# EAGLE library part LTP-3786 (library kmod-testing)
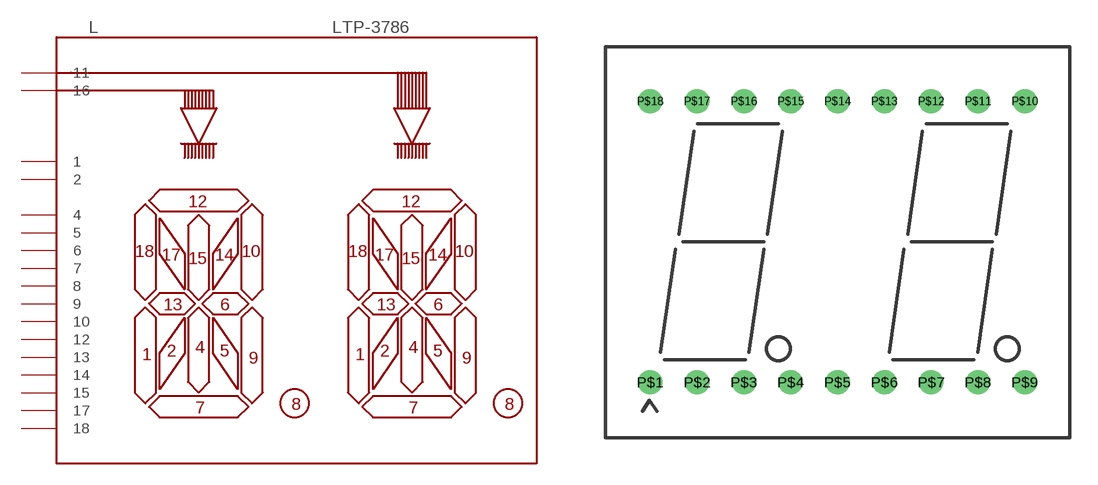
[diagram p21: symbol with the pads of LTP-378?; footprint LTP-378?]

Designator prefix L

## LTP-3786  [LTP-378?]
P$1  1
P$2  2
P$4  4
P$5  5
P$6  6
P$7  7
P$8  8
P$9  9
P$10  10
P$11  11
P$12  12
P$13  13
P$14  14
P$15  15
P$16  16
P$17  17
P$18  18

## Footprint LTP-378? (pad centres in mm)
LiteOn 14-segment display; dual Comes in common anode or CC variants, as well as different colors.
drill 0.813: P$1 -10.16,-7.62; P$2 -7.62,-7.62; P$3 -5.08,-7.62; P$4 -2.54,-7.62; P$5 0,-7.62; P$6 2.54,-7.62; P$7 5.08,-7.62; P$8 7.62,-7.62; P$9 10.16,-7.62; P$10 10.16,7.62; P$11 7.62,7.62; P$12 5.08,7.62; P$13 2.54,7.62; P$14 0,7.62; P$15 -2.54,7.62; P$16 -5.08,7.62; P$17 -7.62,7.62; P$18 -10.16,7.62